# EAGLE library part TCAN3414DRBR (library TCAN3414DRBR)
CAN Interface IC 3.3-V CAN FD transceiver with shut-down and standby mode Source: Datasheet <https://www.ti.com/lit/ds/symlink/tcan3413.pdf?ts=1714741551942&ref_url=https%3A%2F%2Fwww.ti.com%2Fproduct%2FTCAN3413>
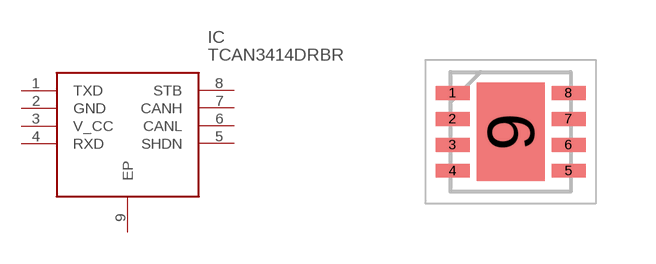
[diagram p0: symbol with the pads of SON65P300X300X100-9N; footprint SON65P300X300X100-9N]

Designator prefix IC

## TCAN3414DRBR (Description: CAN Interface IC 3.3-V CAN FD transceiver with shut-down and standby mode; Height: 1mm; Manufacturer_Name: Texas Instruments; Manufacturer_Part_Number: TCAN3414DRBR; Mouser_Part_Number: 595-TCAN3414DRBR; Mouser_Price-Stock: https://www.mouser.co.uk/ProductDetail/Texas-Instruments/TCAN3414DRBR?qs=2wMNvWM5ZX6YBBH9qF6w4g%3D%3D)  [SON65P300X300X100-9N]
1  TXD
2  GND
3  V_CC
4  RXD
5  SHDN
6  CANL
7  CANH
8  STB
9  EP

## Footprint SON65P300X300X100-9N (pad centres in mm)
DRB0008B
smd 0.85 x 0.35: 1 -1.45,0.975; 2 -1.45,0.325; 3 -1.45,-0.325; 4 -1.45,-0.975; 5 1.45,-0.975; 6 1.45,-0.325; 7 1.45,0.325; 8 1.45,0.975
smd 1.7 x 2.45: 9 0,0